# EAGLE library part DRV8830DGQR (library Texas Instruments_By_element14_Batch_1)
LOW-VOLTAGE MOTOR DRIVER WITH SERIAL INTERFACE
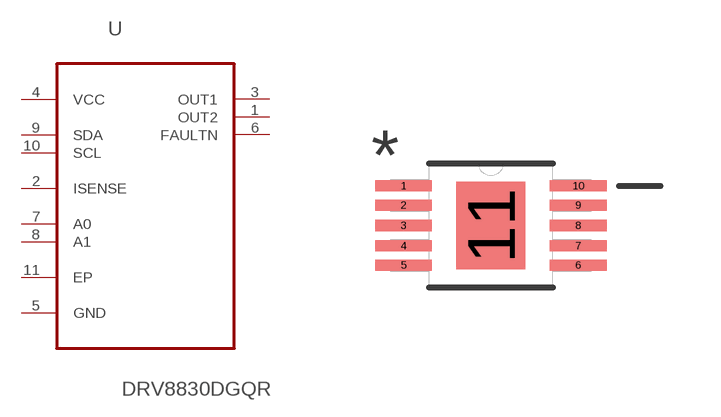
[diagram p0: symbol with the pads of SOP65P640X110-15N; footprint SOP65P640X110-15N]

Designator prefix U

## DRV8830DGQR (MPN: DRV8830DGQR; OC_FARNELL: 1863106; OC_NEWARK: 58T1482; PACKAGE: MSOP-10; SUPPLIER: TEXAS INSTRUMENTS)  [SOP65P640X110-15N]
1  OUT2  out
2  ISENSE  in
3  OUT1  out
4  VCC  pwr
5  GND  pas
6  FAULTN  out
7  A0  in
8  A1  in
9  SDA
10  SCL  in
11  EP  pas

## Footprint SOP65P640X110-15N (pad centres in mm)
smd 1.422 x 0.279: 1 -2.184,0.991; 2 -2.184,0.508; 3 -2.184,0; 4 -2.184,-0.508; 5 -2.184,-0.991; 6 2.184,-0.991; 7 2.184,-0.508; 8 2.184,0; 9 2.184,0.508; 10 2.184,0.991
smd 1.727 x 2.184: 11 0,0